# Altium schematic symbol library SCH - MCU - NUVOTON - NUVOTON M256MD2AE.SchLib: 1 symbol
Pins are listed as number, name and electrical type; pins without a type are passive.

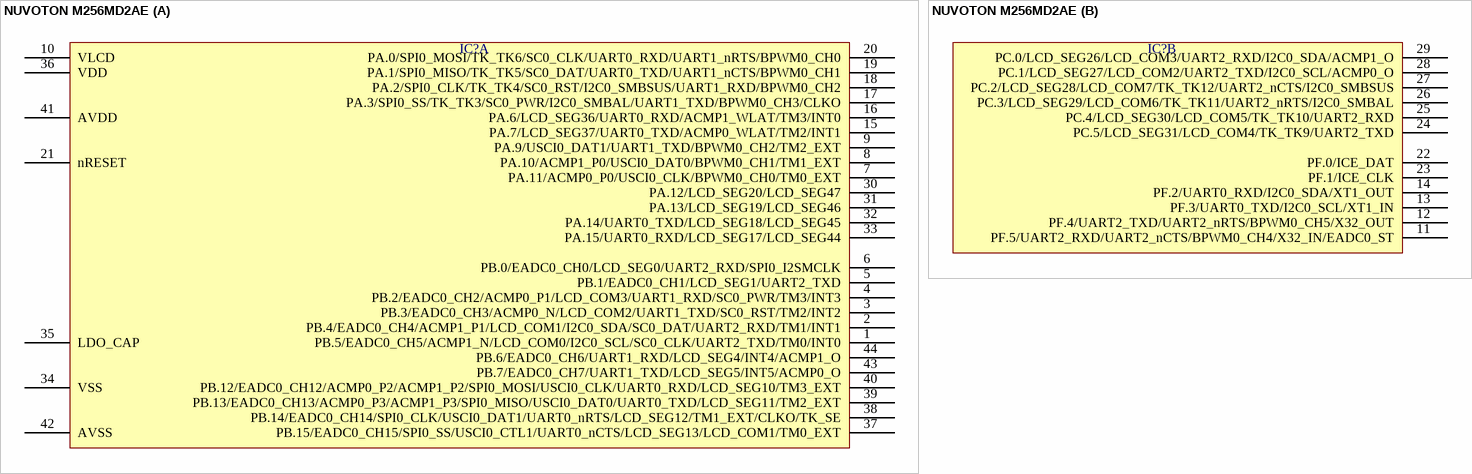
[diagram p0: symbol NUVOTON M256MD2AE]

## NUVOTON M256MD2AE
designator IC?  (value not drawn)
part A pins: 1 PB.5/EADC0_CH5/ACMP1_N/LCD_COM0/I2C0_SCL/SC0_CLK/UART2_TXD/TM0/INT0, 2 PB.4/EADC0_CH4/ACMP1_P1/LCD_COM1/I2C0_SDA/SC0_DAT/UART2_RXD/TM1/INT1, 3 PB.3/EADC0_CH3/ACMP0_N/LCD_COM2/UART1_TXD/SC0_RST/TM2/INT2, 4 PB.2/EADC0_CH2/ACMP0_P1/LCD_COM3/UART1_RXD/SC0_PWR/TM3/INT3, 5 PB.1/EADC0_CH1/LCD_SEG1/UART2_TXD, 6 PB.0/EADC0_CH0/LCD_SEG0/UART2_RXD/SPI0_I2SMCLK, 7 PA.11/ACMP0_P0/USCI0_CLK/BPWM0_CH0/TM0_EXT, 8 PA.10/ACMP1_P0/USCI0_DAT0/BPWM0_CH1/TM1_EXT, 9 PA.9/USCI0_DAT1/UART1_TXD/BPWM0_CH2/TM2_EXT, 10 VLCD, 15 PA.7/LCD_SEG37/UART0_TXD/ACMP0_WLAT/TM2/INT1, 16 PA.6/LCD_SEG36/UART0_RXD/ACMP1_WLAT/TM3/INT0, 17 PA.3/SPI0_SS/TK_TK3/SC0_PWR/I2C0_SMBAL/UART1_TXD/BPWM0_CH3/CLKO, 18 PA.2/SPI0_CLK/TK_TK4/SC0_RST/I2C0_SMBSUS/UART1_RXD/BPWM0_CH2, 19 PA.1/SPI0_MISO/TK_TK5/SC0_DAT/UART0_TXD/UART1_nCTS/BPWM0_CH1, 20 PA.0/SPI0_MOSI/TK_TK6/SC0_CLK/UART0_RXD/UART1_nRTS/BPWM0_CH0, 21 nRESET, 30 PA.12/LCD_SEG20/LCD_SEG47, 31 PA.13/LCD_SEG19/LCD_SEG46, 32 PA.14/UART0_TXD/LCD_SEG18/LCD_SEG45, 33 PA.15/UART0_RXD/LCD_SEG17/LCD_SEG44, 34 VSS, 35 LDO_CAP, 36 VDD, 37 PB.15/EADC0_CH15/SPI0_SS/USCI0_CTL1/UART0_nCTS/LCD_SEG13/LCD_COM1/TM0_EXT, 38 PB.14/EADC0_CH14/SPI0_CLK/USCI0_DAT1/UART0_nRTS/LCD_SEG12/TM1_EXT/CLKO/TK_SE, 39 PB.13/EADC0_CH13/ACMP0_P3/ACMP1_P3/SPI0_MISO/USCI0_DAT0/UART0_TXD/LCD_SEG11/TM2_EXT, 40 PB.12/EADC0_CH12/ACMP0_P2/ACMP1_P2/SPI0_MOSI/USCI0_CLK/UART0_RXD/LCD_SEG10/TM3_EXT, 41 AVDD, 42 AVSS, 43 PB.7/EADC0_CH7/UART1_TXD/LCD_SEG5/INT5/ACMP0_O, 44 PB.6/EADC0_CH6/UART1_RXD/LCD_SEG4/INT4/ACMP1_O
part B pins: 11 PF.5/UART2_RXD/UART2_nCTS/BPWM0_CH4/X32_IN/EADC0_ST, 12 PF.4/UART2_TXD/UART2_nRTS/BPWM0_CH5/X32_OUT, 13 PF.3/UART0_TXD/I2C0_SCL/XT1_IN, 14 PF.2/UART0_RXD/I2C0_SDA/XT1_OUT, 22 PF.0/ICE_DAT, 23 PF.1/ICE_CLK, 24 PC.5/LCD_SEG31/LCD_COM4/TK_TK9/UART2_TXD, 25 PC.4/LCD_SEG30/LCD_COM5/TK_TK10/UART2_RXD, 26 PC.3/LCD_SEG29/LCD_COM6/TK_TK11/UART2_nRTS/I2C0_SMBAL, 27 PC.2/LCD_SEG28/LCD_COM7/TK_TK12/UART2_nCTS/I2C0_SMBSUS, 28 PC.1/LCD_SEG27/LCD_COM2/UART2_TXD/I2C0_SCL/ACMP0_O, 29 PC.0/LCD_SEG26/LCD_COM3/UART2_RXD/I2C0_SDA/ACMP1_O